# EAGLE library part ADS7823 (library lpatiny copy)
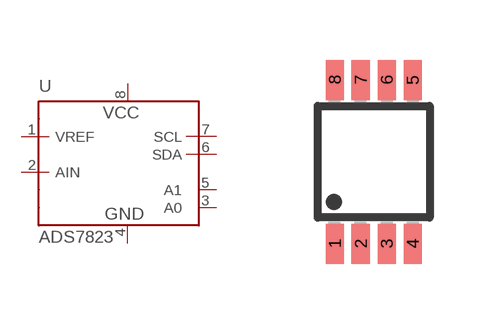
[diagram p8: symbol with the pads of MSOP8; footprint MSOP8]

Designator prefix -

## ADS7823  [MSOP8]
1  VREF  in
2  AIN  in
3  A0  in
4  GND  pwr
5  A1  in
6  SDA
7  SCL  in
8  VCC  pwr

## Footprint MSOP8 (pad centres in mm)
Micro Small Outline Package Grid 0.65mm Source: http://ww1.microchip.com/downloads/en/DeviceDoc/21796H.pdf
smd 0.45 x 1: 1 -0.975,-2.05; 2 -0.325,-2.05; 3 0.325,-2.05; 4 0.975,-2.05; 5 0.975,2.05; 6 0.325,2.05; 7 -0.325,2.05; 8 -0.975,2.05